# EAGLE library part SQ1420EEH-T1-GE3 (library Vishay)
N-Channel MOSFET
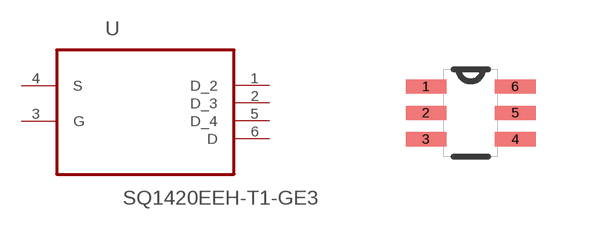
[diagram p103: symbol with the pads of SOT65P210X110-6N; footprint SOT65P210X110-6N]

Designator prefix U

## SQ1420EEH-T1-GE3 (MPN: SQ1420EEH-T1-GE3; OC_FARNELL: 2056703; OC_NEWARK: 64T4127; PACKAGE: SOT-6; SUPPLIER: Vishay Siliconix)  [SOT65P210X110-6N]
1  D_2  pas
2  D_3  pas
3  G  pas
4  S  pas
5  D_4  pas
6  D  pas

## Footprint SOT65P210X110-6N (pad centres in mm)
smd 1.016 x 0.356: 1 -1.118,0.66; 2 -1.118,0; 3 -1.118,-0.66; 4 1.118,-0.66; 5 1.118,0; 6 1.118,0.66